# Altium schematic symbol library BPV10NF.SchLib: 1 symbol
Pins are listed as number, name and electrical type; pins without a type are passive.

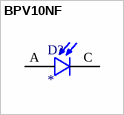
[diagram p0: symbol BPV10NF]

## BPV10NF
designator D?
Photodiodes T-1.75 790 to 1050nm +/-20 deg; MP: BPV10NF; MF: Vishay Semiconductors; SnapEDA_Link: https://www.snapeda.com/parts/BPV10NF/Vishay/view-part/?ref=snap; Package: None; Check_prices: https://www.snapeda.com/parts/BPV10NF/Vishay/view-part/?ref=eda; Purchase-URL: https://pricing.snapeda.com/search/part/BPV10NF/?ref=eda; Price: None; Value: *; Availability: In Stock
footprint XDCR_BPV10NF
pins: A, C